# EAGLE library part NCS36000 (library Deegou_IC)
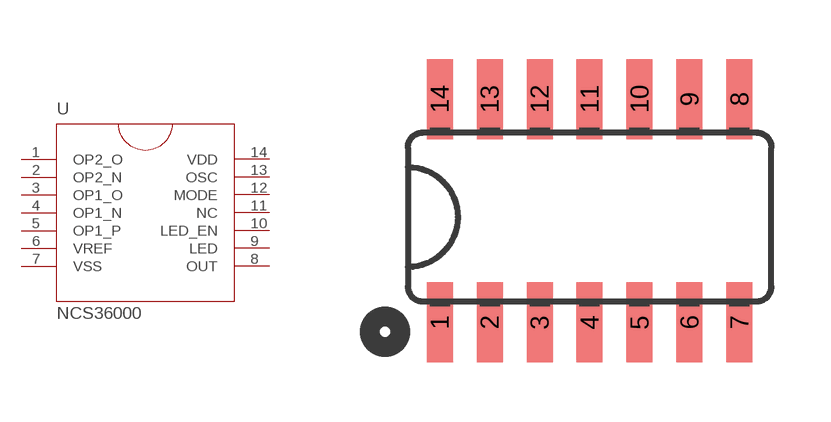
[diagram p73: symbol with the pads of SO014; footprint SO014]

Designator prefix U

## NCS36000  [SO014]
1  OP2_O
2  OP2_N
3  OP1_O
4  OP1_N
5  OP1_P
6  VREF
7  VSS
8  OUT
9  LED
10  LED_EN
11  NC
12  MODE
13  OSC
14  VDD

## Footprint SO014 (pad centres in mm)
smd 0.66 x 2.032: 1 -3.175,-2.68; 2 -1.905,-2.68; 3 -0.635,-2.68; 4 0.635,-2.68; 5 1.905,-2.68; 6 3.175,-2.68; 7 4.445,-2.68; 8 4.445,2.997; 9 3.175,2.997; 10 1.905,2.997; 11 0.635,2.997; 12 -0.635,2.997; 13 -1.905,2.997; 14 -3.175,2.997